# Altium schematic symbol library 0402WGF3303TCE.SchLib: 1 symbol
Pins are listed as number, name and electrical type; pins without a type are passive.

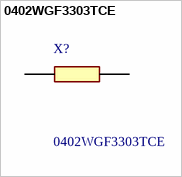
[diagram p0: symbol 0402WGF3303TCE]

## 0402WGF3303TCE
designator X?
Resistor: thick film; SMD; 0402; 330k; 62.5mW; +/-1%; -55155C; Manufacturer_Name: ROYALOHM; Geometry.Height: 0.4mm; Manufacturer_Part_Number: 0402WGF3303TCE; Mouser Part Number: *; Mouser Price/Stock: *; Arrow Part Number: *; Arrow Price/Stock: *; Datasheet Link: https://www.tme.eu/Document/4f50d320a6ddacb273098f84373b6259/rezystor-smd.pdf
footprint RESC1005X40N
pins: 1, 2